# EAGLE library part MCP1826T (library ATK_lib)
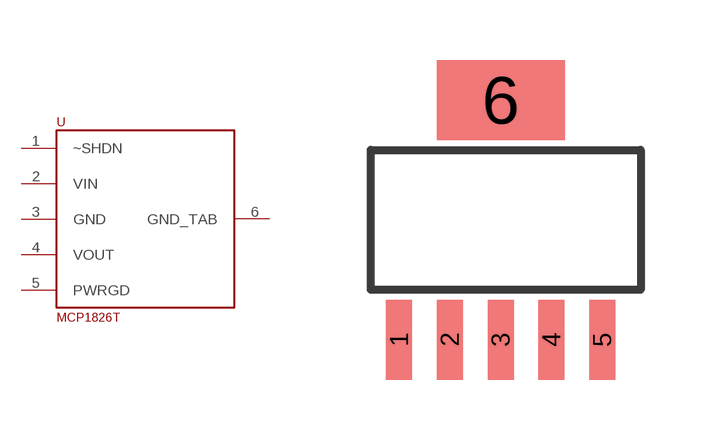
[diagram p2: symbol with the pads of SOP-223-5; footprint SOP-223-5]

Designator prefix -

## MCP1826TMCP1826T  [SOP-223-5]
1  ~SHDN
2  VIN
3  GND
4  VOUT
5  PWRGD
6  GND_TAB

## Footprint SOP-223-5 (pad centres in mm)
smd 0.65 x 2: 1 -2.54,-3; 2 -1.27,-3; 3 0,-3; 4 1.27,-3; 5 2.54,-3
smd 3.2 x 2: 6 0,3